# Altium schematic symbol library Capacitors-Electrolytic.SchLib: 4 symbols
Pins are listed as number, name and electrical type; pins without a type are passive.

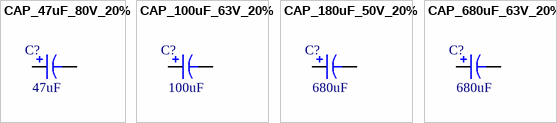
[diagram p0: symbols CAP_47uF_80V_20% to CAP_680uF_63V_20%]

## CAP_47uF_80V_20%
designator C?, comment value 47uF  (hidden comment: 47uF 80V)
47uF 80V 20%; PartNumber: EEE-FK1K470P; Manufacturer: Panasonic; Mounting Technology: Surface Mount; PackageReference: 1H; PackageDescription: 10mm; Voltage: 80V; Tolerance: 20%
footprint CAP_EEFK_G
pins: 1, 2

## CAP_100uF_63V_20%
designator C?, comment value 100uF  (hidden comment: 100uF 63V)
100uF 63V 20%; PartNumber: PCR1J101MCL1GS; Manufacturer: Nichicon; Mounting Technology: Surface Mount; PackageReference: 1H; PackageDescription: 10x12.7mm; Voltage: 63V; Tolerance: 20%
footprint CAP-ELECTROLYTIC[10.0x12.6]
pins: 1, 2

## CAP_180uF_50V_20%
designator C?, comment value 680uF  (hidden comment: 180uF 50V)
180uF 50V 20%; PartNumber: PCR1H181MCL1GS; Manufacturer: Nichicon; Mounting Technology: Surface Mount; PackageReference: 1H; PackageDescription: 5mm; Voltage: 50V; Tolerance: 20%
footprint CAP-ELECTROLYTIC[10.0x12.6]
pins: 1, 2

## CAP_680uF_63V_20%
designator C?, comment value 680uF  (hidden comment: 680uF 63V)
680uF 63V 20%  EC; PartNumber: EKZN630ELL681MK30S; Manufacturer: United Chemi-Con; Mounting Technology: Through Hall; PackageReference: 1H; PackageDescription: 12.5x31.5mm; Voltage: 63V; Tolerance: 20%
footprint CAP_ELEC_THRU_5MM_HORZ
pins: 1, 2